# EAGLE library part LSM9DS0 (library lab4)
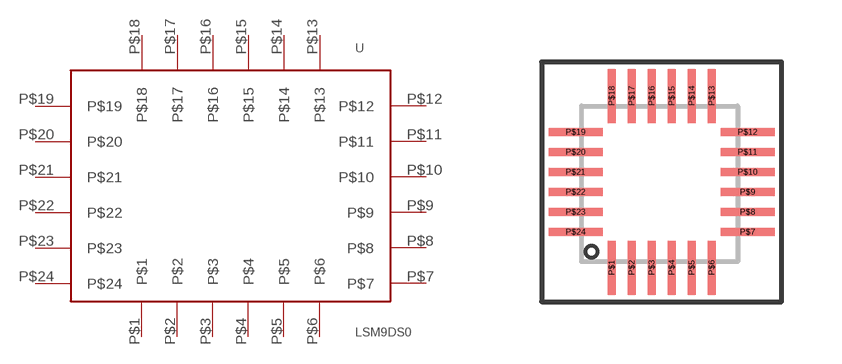
[diagram p0: symbol with the pads of LSM9DS0; footprint LSM9DS0]

Designator prefix -

## LSM9DS0MAIN  [LSM9DS0]
P$1  P$1
P$2  P$2
P$3  P$3
P$4  P$4
P$5  P$5
P$6  P$6
P$7  P$7
P$8  P$8
P$9  P$9
P$10  P$10
P$11  P$11
P$12  P$12
P$13  P$13
P$14  P$14
P$15  P$15
P$16  P$16
P$17  P$17
P$18  P$18
P$19  P$19
P$20  P$20
P$21  P$21
P$22  P$22
P$23  P$23
P$24  P$24

## Footprint LSM9DS0 (pad centres in mm)
smd 0.2 x 1.35: P$1 -1.25,-2.15; P$2 -0.75,-2.15; P$3 -0.25,-2.15; P$4 0.25,-2.15; P$5 0.75,-2.15; P$6 1.25,-2.15; P$13 1.25,2.15; P$14 0.75,2.15; P$15 0.25,2.15; P$16 -0.25,2.15; P$17 -0.75,2.15; P$18 -1.25,2.15
smd 1.35 x 0.2: P$7 2.15,-1.25; P$8 2.15,-0.75; P$9 2.15,-0.25; P$10 2.15,0.25; P$11 2.15,0.75; P$12 2.15,1.25; P$19 -2.15,1.25; P$20 -2.15,0.75; P$21 -2.15,0.25; P$22 -2.15,-0.25; P$23 -2.15,-0.75; P$24 -2.15,-1.25